# EAGLE library part ST7735S_LCD_MODULE (library name-in-lights)
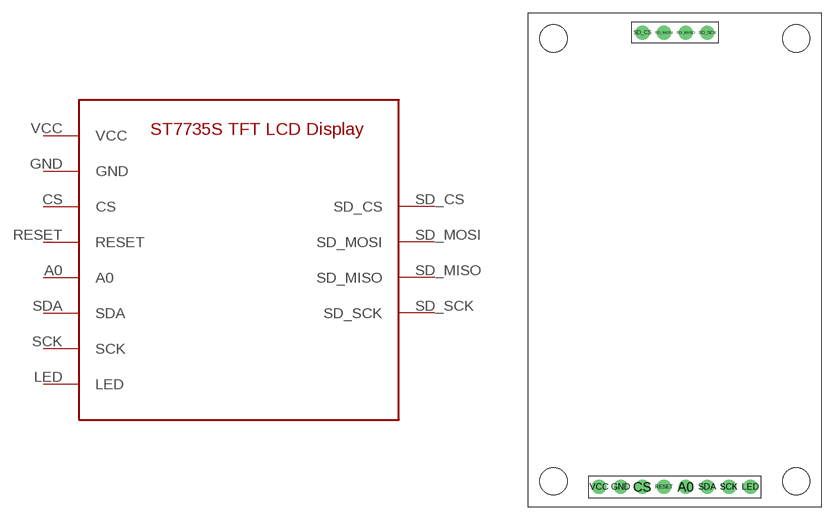
[diagram p0: symbol with the pads of ST7735S_LCD_DISPLAY; footprint ST7735S_LCD_DISPLAY]

Designator prefix -

## ST7735S_LCD_MODULE  [ST7735S_LCD_DISPLAY]
A0  A0
CS  CS
GND  GND
LED  LED
RESET  RESET
SCK  SCK
SD_CS  SD_CS
SD_MISO  SD_MISO
SD_MOSI  SD_MOSI
SD_SCK  SD_SCK
SDA  SDA
VCC  VCC

## Footprint ST7735S_LCD_DISPLAY (pad centres in mm)
drill 1 pad 1.676: A0 1.27,-26.67; CS -3.81,-26.67; GND -6.35,-26.67; LED 8.89,-26.67; RESET -1.27,-26.67; SCK 6.35,-26.67; SD_CS -3.81,26.67; SD_MISO 1.27,26.67; SD_MOSI -1.27,26.67; SD_SCK 3.81,26.67; SDA 3.81,-26.67; VCC -8.89,-26.67
hole 3.2 at -14.25,26
hole 3.2 at 14.25,26
hole 3.2 at 14.25,-26
hole 3.2 at -14.25,-26